# EAGLE library part GD25Q16CS (library FaBo-FlashNOR)
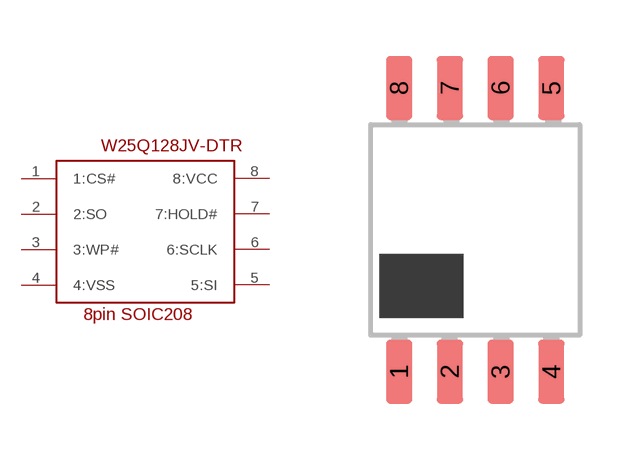
[diagram p0: symbol with the pads of SOP8-208MIL; footprint SOP8-208MIL]

Designator prefix -

## GD25Q16CS  [SOP8-208MIL]
1  1:CS#  in
2  2:SO  out
3  3:WP#
4  4:VSS  pwr
5  5:SI  in
6  6:SCLK  in
7  7:HOLD#
8  8:VCC  pwr

## Footprint SOP8-208MIL (pad centres in mm)
smd 0.65 x 1.6: 1 -1.905,-3.55; 2 -0.635,-3.55; 3 0.635,-3.55; 4 1.905,-3.55; 5 1.905,3.55; 6 0.635,3.55; 7 -0.635,3.55; 8 -1.905,3.55